# Altium schematic symbol library SCH - DRIVER - LED - TI TLC5924_DAP_32.SchLib: 1 symbol
Pins are listed as number, name and electrical type; pins without a type are passive.

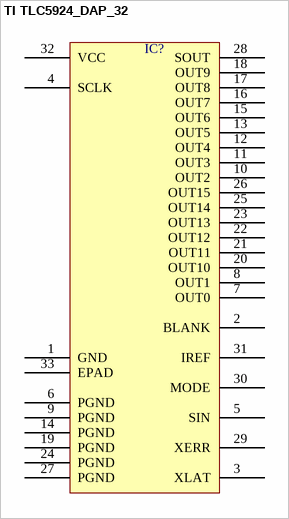
[diagram p0: symbol TI TLC5924_DAP_32]

## TI TLC5924_DAP_32
designator IC?  (value not drawn)
pins: 1 GND, 2 BLANK, 3 XLAT, 4 SCLK, 5 SIN, 6 PGND, 7 OUT0, 8 OUT1, 9 PGND, 10 OUT2, 11 OUT3, 12 OUT4, 13 OUT5, 14 PGND, 15 OUT6, 16 OUT7, 17 OUT8, 18 OUT9, 19 PGND, 20 OUT10, 21 OUT11, 22 OUT12, 23 OUT13, 24 PGND, 25 OUT14, 26 OUT15, 27 PGND, 28 SOUT, 29 XERR, 30 MODE, 31 IREF, 32 VCC, 33 EPAD